# Altium schematic symbol library 2012.SchLib: 1 symbol
Pins are listed as number, name and electrical type; pins without a type are passive.

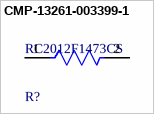
[diagram p0: symbol CMP-13261-003399-1]

## CMP-13261-003399-1
designator R?, comment RC2012F1473CS
Res Thick Film 0805 147kΩ 1% 0.125W ±100ppm/°C Molded SMD T/R; Voltage Rating (DC): 150V; Resistance: 147kR; Power Rating: 125mW; Width: 1.25mm; Lead Free: Lead Free; Tolerance: 1%; Length: 2mm; Case/Package: 0805; Height: 0.5mm
footprint FP-RC2012-IPC_B
footprint FP-RC2012-MFG
footprint FP-RC2012-IPC_A
footprint FP-RC2012-IPC_C
pins: 1, 2